# Altium footprint library 电源类.PcbLib: 13 footprints
Each footprint in its own frame and in the unit in brackets; x right, y up, seen from the top. Pads: shape width x height; smd on the part's side, far side on the other; paste and mask are expansions set on the pad; w line width, h text height; cw(c..) or ccw(c..) is an arc to the next point about the centre after c.
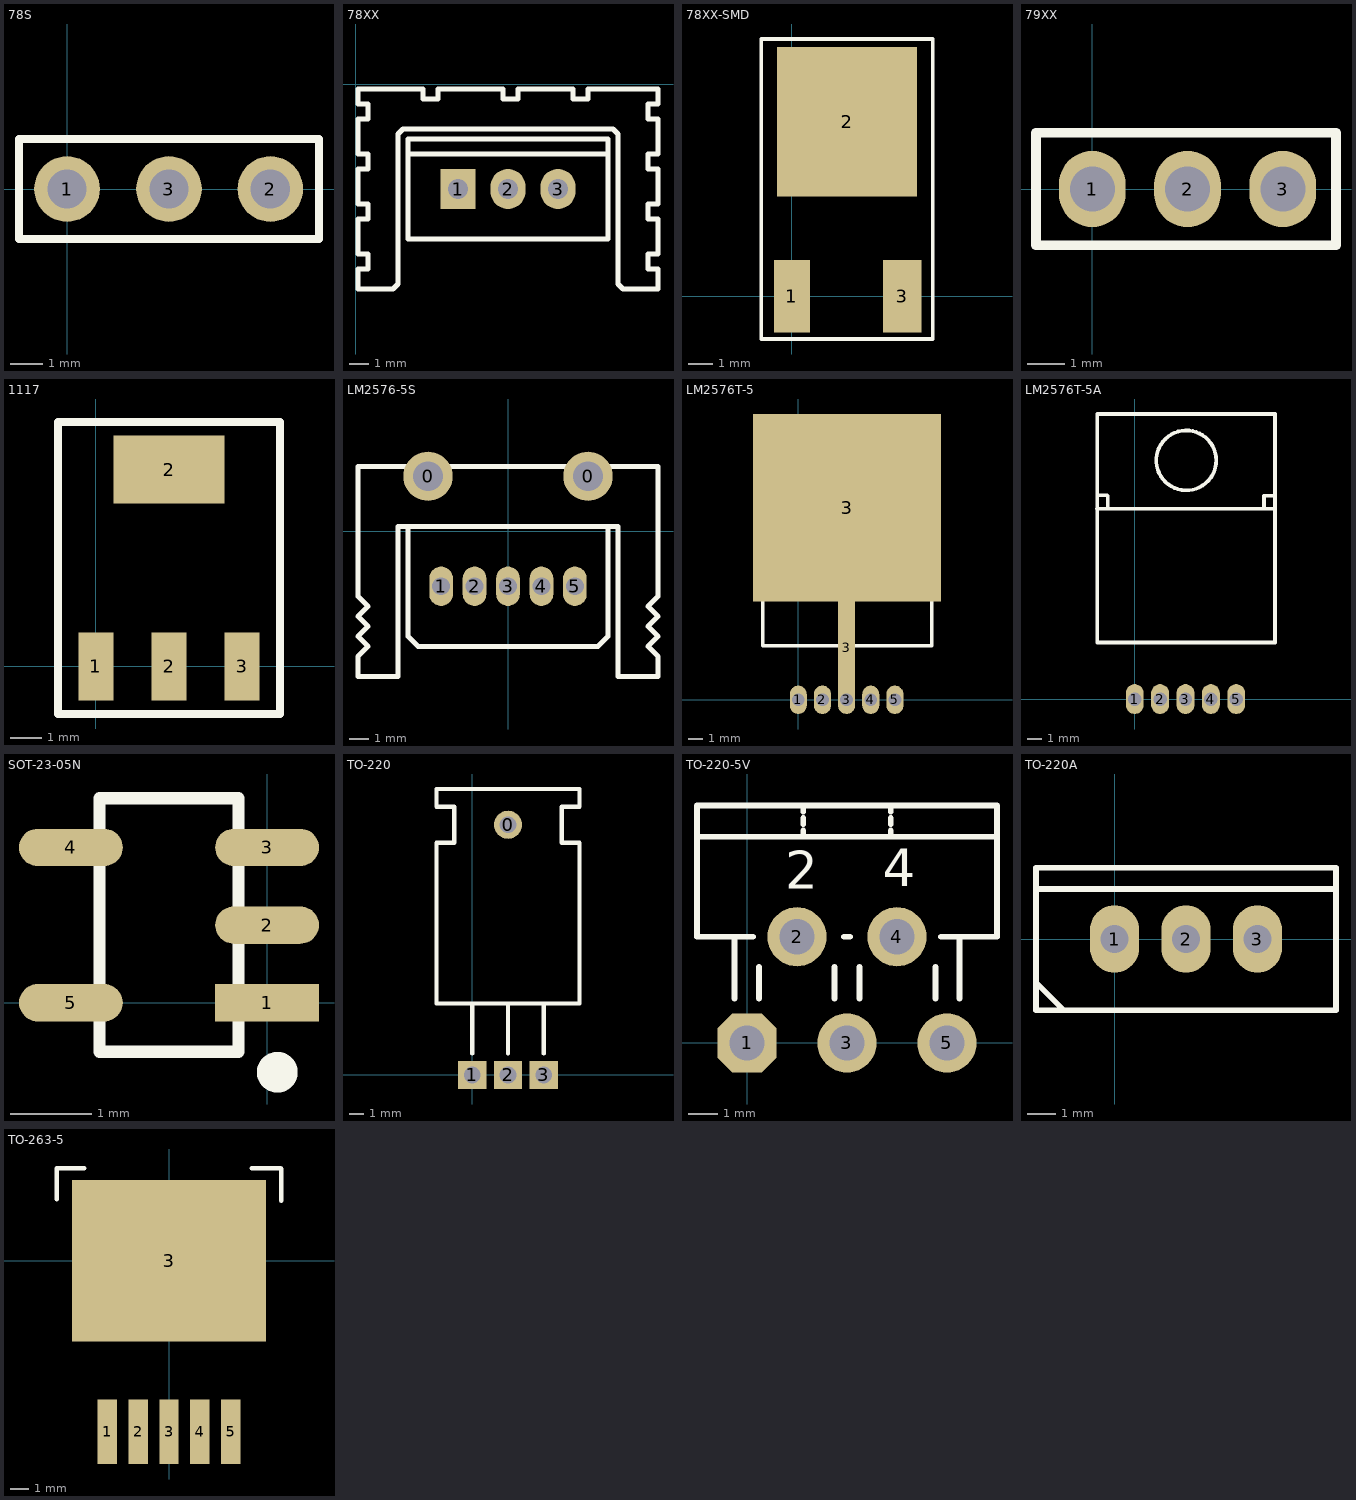
[diagram p0: the footprints below, top view; thin cyan lines are the x and y axes]

## 78S [mm]
pads (3):
  round 2 hole 1.2: 1(0,0) 2(6.198,0) 3(3.107,0)
Top Overlay:
  lines w0.254: -1.465,-1.524 -0.957,-1.524 7.679,-1.524 7.679,1.524 -1.465,1.524 -1.465,-1.524

## 78XX [mil]
pads (3):
  rect 70x80 hole 39.37: 1(205,-210)
  oval 70x80 hole 39.37: 2(305,-210) 3(405,-210)
Top Overlay:
  lines w10: 105,-140 505,-140 ; 5,-410 75,-410 85,-400 85,-100 95,-90 515,-90 525,-100 525,-400 535,-410 555,-410 605,-410 605,-370 585,-370 585,-340 605,-340 605,-270 585,-270 585,-240 605,-240 605,-170 585,-170 585,-140 605,-140 605,-70 585,-70 585,-40 605,-40 605,-10 465,-10 465,-30 435,-30 435,-10 325,-10 325,-30 295,-30 295,-10 165,-10 165,-30 135,-30 135,-10 5,-10 5,-40 25,-40 25,-70 5,-70 5,-140 25,-140 25,-170 5,-170 5,-240 25,-240 25,-270 5,-270 5,-340 25,-340 25,-370 5,-370 5,-410 ; 105,-310 505,-310 505,-110 105,-110 105,-310

## 78XX-SMD [mm]
pads (3):
  rect 1.5x3 smd: 1(0,0)
  rect 5.8x6.2 smd: 2(2.286,7.239)
  rect 1.6x3 smd: 3(4.572,0)
Top Overlay:
  lines w0.152: -1.27,-1.778 -1.27,10.668 5.842,10.668 5.842,-1.778 -1.27,-1.778

## 79XX [mil]
pads (3):
  oval 70x80 hole 47.24: 1(0,0) 2(100,0) 3(200,0)
Top Overlay:
  lines w10: -59.05,-59.05 255.91,-59.05 255.91,59.05 -59.05,59.05 -59.05,-59.05

## 1117 [mm]
pads (4):
  rect 1.1x2.15 smd: 1(0,0) 2(2.3,0) 3(4.6,0)
  rect 3.5x2.15 smd: 2(2.3,6.2)
Top Overlay:
  lines w0.25: -1.2,-1.5 5.8,-1.5 5.8,7.7 -1.2,7.7 -1.2,-1.5

## LM2576-5S [mm]
pads (7):
  round 2.5 hole 1.5: 0(-4.064,2.794) 0(4.064,2.794)
  oval 1.2x2 hole 0.9: 1(-3.4,-2.794) 2(-1.7,-2.794) 3(0,-2.794) 4(1.7,-2.794) 5(3.4,-2.794)
Top Overlay:
  lines w0.254: -5.08,0.254 -5.08,-0.254 -5.08,-5.334 -4.572,-5.842 4.572,-5.842 5.08,-5.334 5.08,-0.254 5.08,0.254 ; -7.62,-7.366 -7.62,-6.35 -7.112,-5.842 -7.62,-5.334 -7.112,-4.826 -7.62,-4.318 -7.112,-3.81 -7.62,-3.302 -7.62,3.302 7.62,3.302 7.62,-3.302 7.112,-3.81 7.62,-4.318 7.112,-4.826 7.62,-5.334 7.112,-5.842 7.62,-6.35 7.62,-7.366 5.588,-7.366 5.588,0.254 -5.588,0.254 -5.588,-7.366 -7.62,-7.366

## LM2576T-5 [mm]
pads (7):
  oval 1.2x2 hole 0.9: 1(0,0) 2(1.7,0) 3(3.4,0) 4(5.1,0) 5(6.8,0)
  rect 1.2x8 smd: 3(3.404,3.658)
  rect 13.208x13.208 smd: 3(3.429,13.513)
Top Overlay:
  circle w0.254: c3.452,15.987 r2.007
  lines w0.254: -2.517,12.745 9.378,12.745 9.387,12.735 ; -2.513,13.65 -1.857,13.65 ; -1.831,13.624 -1.857,13.65 ; -1.806,12.745 -1.806,13.599 -1.857,13.65 ; 8.659,12.745 8.659,13.624 9.387,13.624 ; -2.513,3.795 -2.513,19.095 9.387,19.095 9.387,3.795 -2.513,3.795

## LM2576T-5A [mm]
pads (5):
  oval 1.2x2 hole 0.9: 1(0,0) 2(1.7,0) 3(3.4,0) 4(5.1,0) 5(6.8,0)
Top Overlay:
  circle w0.254: c3.452,15.987 r2.007
  lines w0.254: -2.517,12.745 9.378,12.745 9.387,12.735 ; -2.513,13.65 -1.857,13.65 ; -1.831,13.624 -1.857,13.65 ; -1.806,12.745 -1.806,13.599 -1.857,13.65 ; 8.659,12.745 8.659,13.624 9.387,13.624 ; -2.513,3.795 -2.513,19.095 9.387,19.095 9.387,3.795 -2.513,3.795

## SOT-23-05N [mil]
pads (5):
  rect 50x18 smd: 1(0,0)
  oval 50x18 smd: 2(0,37.4) 3(0,74.8) 4(-94.49,74.8) 5(-94.49,0)
Top Overlay:
  circle w9.84: c4.92,-33.46 r4.92
  lines w6: -80.71,-23.62 -80.71,98.43 -13.78,98.43 -13.78,-23.62 -80.71,-23.62

## TO-220 [mm]
pads (4):
  round 2 hole 1.2: 0(2.54,17.78)
  rect 2x2 hole 1.2: 1(0,0) 2(2.54,0) 3(5.08,0)
Top Overlay:
  lines w0.305: 0,1.524 0,5.08 ; 2.54,1.524 2.54,5.08 ; 5.08,1.524 5.08,5.08 ; -2.54,5.08 -2.54,16.51 -1.27,16.51 -1.27,19.05 -2.54,19.05 -2.54,20.32 7.62,20.32 7.62,19.05 6.35,19.05 6.35,16.51 7.62,16.51 7.62,5.08 -2.54,5.08

## TO-220-5V [mm]
pads (5):
  oct 2x2 hole 1.2: 1(0,0)
  round 2 hole 1.2: 2(1.693,3.598) 3(3.387,0) 4(5.08,3.598) 5(6.773,0)
Top Overlay:
  lines w0.2: -1.693,6.985 8.467,6.985 ; -0.423,1.5 -0.423,3.598 ; 0.2,3.598 -1.693,3.598 -1.693,8.043 8.467,8.043 8.467,3.598 6.573,3.598 ; 0.4,1.5 0.4,2.578 ; 1.905,6.985 1.905,7.197 ; 1.905,7.408 1.905,7.62 ; 1.905,7.832 1.905,8.043 ; 2.963,1.5 2.963,2.578 ; 3.287,3.598 3.487,3.598 ; 3.81,1.5 3.81,2.578 ; 4.868,6.985 4.868,7.197 ; 4.868,7.408 4.868,7.62 ; 4.868,7.832 4.868,8.043 ; 6.381,1.5 6.381,2.578 ; 7.197,1.5 7.197,3.598
  text "2" at 1.301,5.216 h1.27
  text "4" at 4.597,5.301 h1.27

## TO-220A [mm]
pads (3):
  oval 1.75x2.4 hole 1: 1(0,0) 2(2.54,0) 3(5.08,0)
Top Overlay:
  lines w0.2: -2.794,-1.549 -1.803,-2.54 ; -2.794,1.778 7.874,1.778 ; -2.794,-2.54 -2.794,2.54 7.874,2.54 7.874,-2.54 -2.794,-2.54

## TO-263-5 [mil]
pads (6):
  rect 42x140 smd: 1(-134,-370) 2(-67,-370) 3(0,-370) 4(67,-370) 5(134,-370)
  rect 420x350 smd: 3(0,0)
Top Overlay:
  lines w10: -243,134 -243,201 -184,201 ; 179,201 242,201 243,200 243,130